# EAGLE library part 0395021010 (library con-molex)
10 Position Terminal Block Header
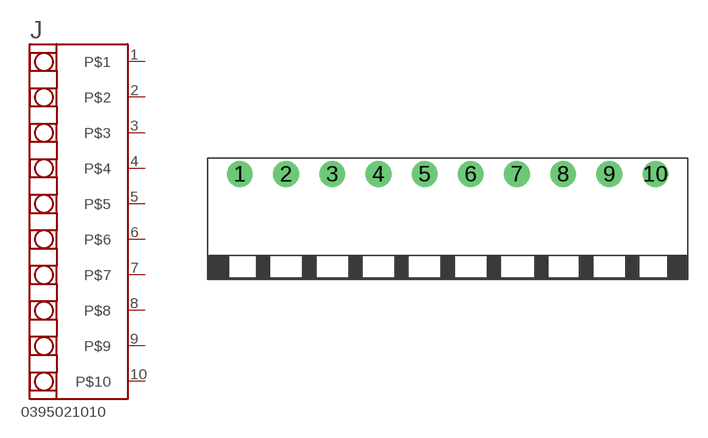
[diagram p0: symbol with the pads of 0395021010; footprint 0395021010]

Designator prefix J

## 0395021010 (ASSOC: WM7740-ND; DIGIKEY: WM7778-ND)  [0395021010]
1  P$1
2  P$2
3  P$3
4  P$4
5  P$5
6  P$6
7  P$7
8  P$8
9  P$9
10  P$10

## Footprint 0395021010 (pad centres in mm)
drill 1.3: 1 -15.75,0; 2 -12.25,0; 3 -8.75,0; 4 -5.25,0; 5 -1.75,0; 6 1.75,0; 7 5.25,0; 8 8.75,0; 9 12.25,0; 10 15.75,0